# EAGLE library part ISL55110 (library intersil)
Dual MOSFET Driver
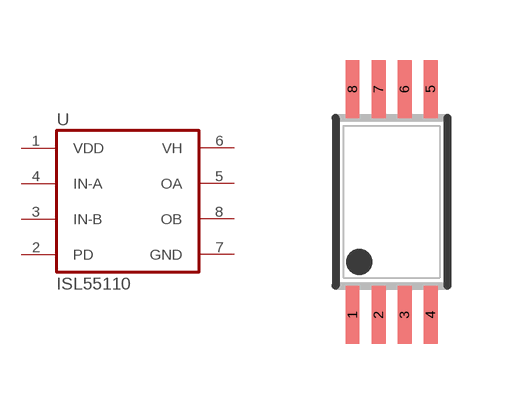
[diagram p2: symbol with the pads of TSSOP8; footprint TSSOP8]

Designator prefix U

## ISL55110IVZ  [TSSOP8]
1  VDD  pwr
2  PD
3  IN-B  in
4  IN-A  in
5  OA
6  VH
7  GND  pwr
8  OB

## Footprint TSSOP8 (pad centres in mm)
Thin Shrink Small Outline Plastic 8
smd 0.35 x 1.45: 1 -0.975,-2.825; 2 -0.325,-2.825; 3 0.325,-2.825; 4 0.975,-2.825; 5 0.975,2.825; 6 0.325,2.825; 7 -0.325,2.825; 8 -0.975,2.825